# Altium footprint library диоды.PcbLib: 14 footprints
Each footprint in its own frame and in the unit in brackets; x right, y up, seen from the top. Pads: shape width x height; smd on the part's side, far side on the other; paste and mask are expansions set on the pad; w line width, h text height; cw(c..) or ccw(c..) is an arc to the next point about the centre after c.
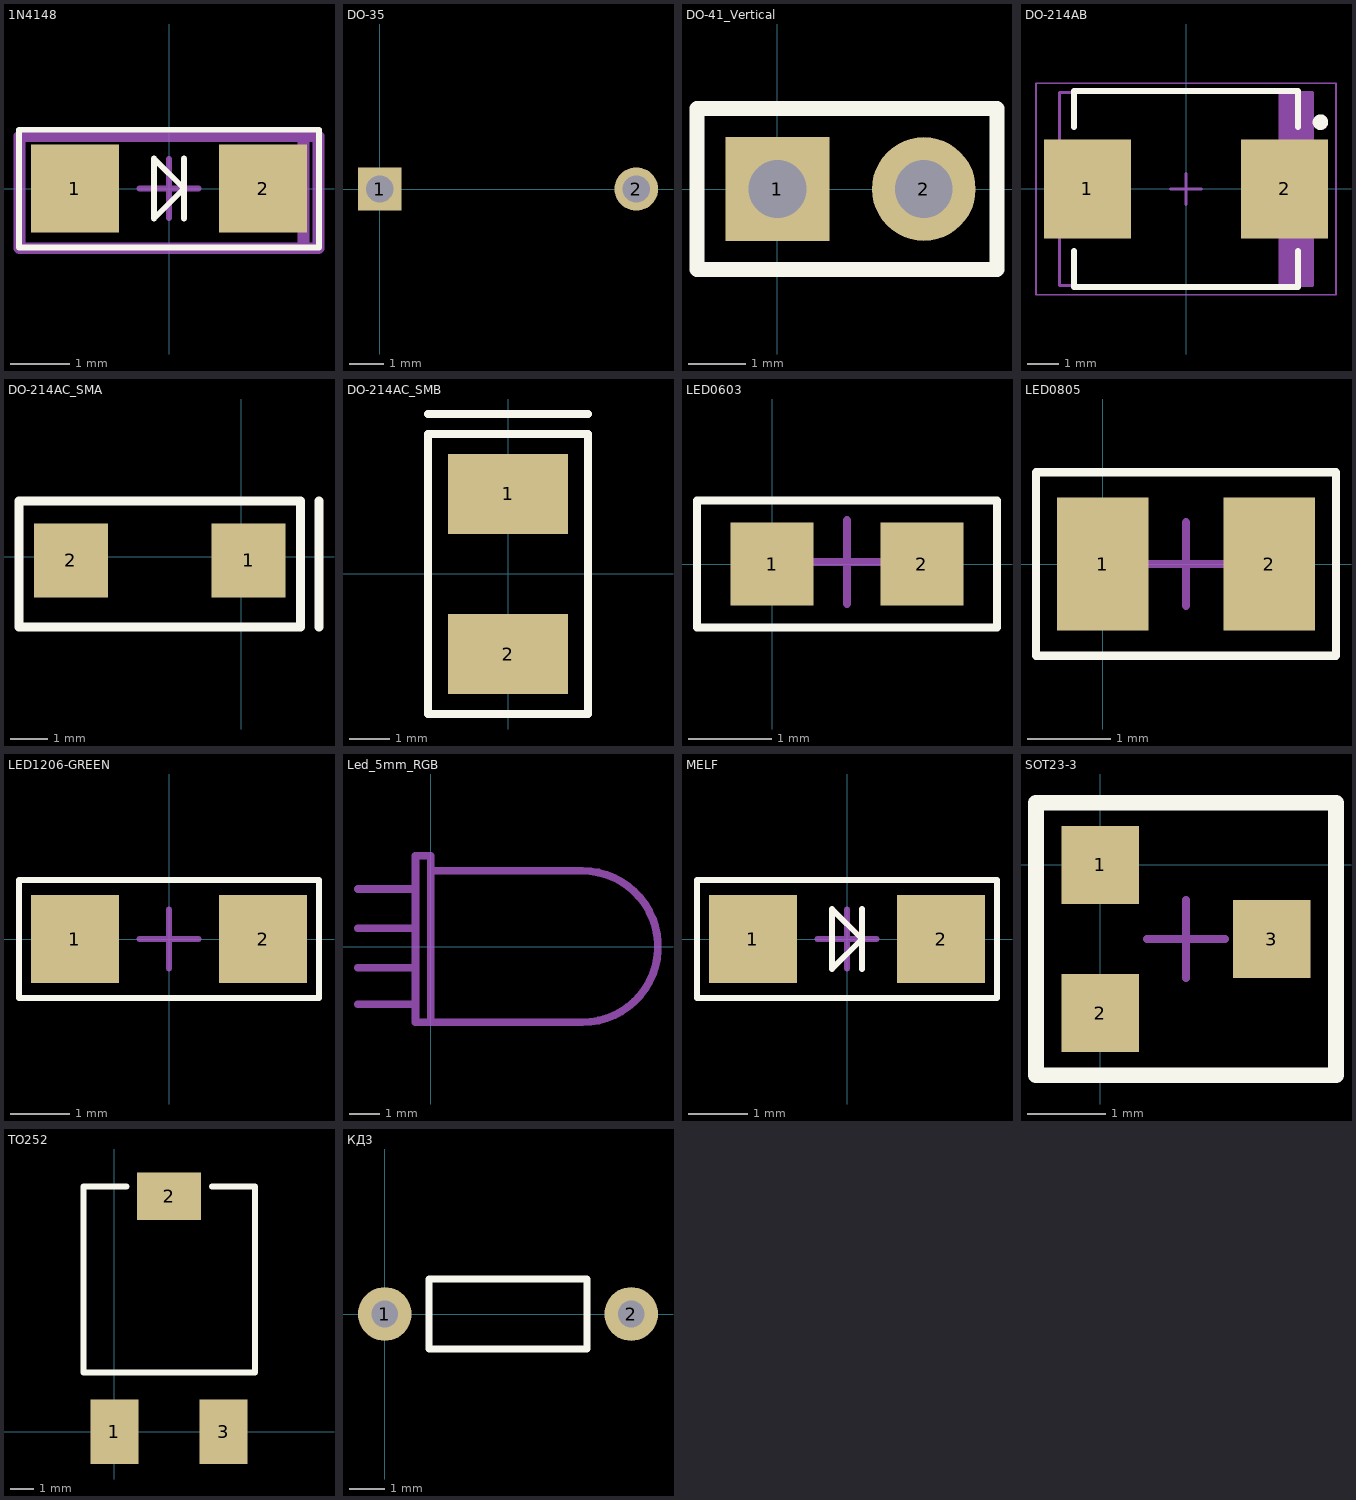
[diagram p0: the footprints below, top view; thin cyan lines are the x and y axes]

## 1N4148 [mm]
pads (2):
  rect 1.5x1.5 smd: 1(-1.6,0) 2(1.6,0)
Top Overlay:
  lines w0.1: 0.254,-0.508 0.254,0.508 ; -2.55,-1 2.55,-1 2.55,1 -2.55,1 -2.55,-1 ; -0.254,-0.508 -0.254,0.508 0.254,0 -0.254,-0.508
Top Assy:
  lines w0.2: 2.286,-1.016 2.286,0.889 ; -2.54,-1.016 -2.54,0.889 2.54,0.889 2.54,-1.016 -2.54,-1.016
  text ".Designator" at -2.14,0.284 h1.52
Mechanical 15:
  lines w0.1: -0.5,0 0.5,0 ; 0,-0.5 0,0.5
3D body "1n4148.step": height 1.6, standoff 0, extent -1.723,-0.838 1.977,0.762

## DO-35 [mm]
pads (2):
  rect 1.27x1.27 hole 0.8: 1(0,0)
  round 1.27 hole 0.8: 2(7.5,0)

## DO-41_Vertical [mm]
pads (2):
  rect 1.8x1.8 hole 1: 1(0,0)
  round 1.8 hole 1: 2(2.54,0)
Top Overlay:
  lines w0.254: -1.397,-1.397 3.81,-1.397 3.81,1.397 -1.397,1.397 -1.397,-1.397
3D body "User Library-Diod DO-41 Vertical.STEP": height 9.64, standoff -4.5, extent -1.365,-1.365 2.97,1.365

## DO-214AB [mm] "DO-214AB, SMC"
height 2.6
pads (2):
  rect 2.8x3.2 smd: 1(-3.175,0) 2(3.175,0)
Top Overlay:
  circle w0.25: c4.325,2.15 r0.125
  lines w0.2: -3.6,-2 -3.6,-3.15 3.6,-3.15 3.6,-2 ; -3.6,2 -3.6,3.15 3.6,3.15 3.6,2
Mechanical 13:
  rectangle: 2.972,-3.11 4.065,3.11
  lines w0.1: -4.065,-3.11 -4.065,3.11 4.065,3.11 4.065,-3.11 -4.065,-3.11
Mechanical 15:
  lines w0.05: -4.825,-3.4 -4.825,3.4 4.825,3.4 4.825,-3.4 -4.825,-3.4
  lines w0.1: -0.5,0 0.5,0 ; 0,-0.5 0,0.5
3D body "User Library-DO-214AB(SMC).STEP": height 2.62, standoff -0.02, extent -4.264,-3.15 3.864,3.15

## DO-214AC_SMA [mm]
pads (2):
  rect 2x2 smd: 1(0.2,-0.1) 2(-4.6,-0.1)
Top Overlay:
  lines w0.254: 2.1,-1.9 2.1,1.5 ; -6,-1.9 -6,1.5 -5.5,1.5 1.6,1.5 1.6,-1.9 -5.5,-1.9 -6,-1.9
3D body "User Library-DO-214AC(SMA).STEP": height 2.64, standoff 0.36, extent -4.943,-1.597 0.543,1.197

## DO-214AC_SMB [mm]
pads (2):
  rect 3x2 smd: 1(0,2) 2(0,-2)
Top Overlay:
  lines w0.2: -2,4 2,4 ; -2,-3.5 -2,3.5 2,3.5 2,-3.5 -2,-3.5
Top Assy:
  lines w0.2: -2,4 2,4 ; -2,-3.5 -2,3.5 2,3.5 2,-3.5 -2,-3.5
  text ".Designator" at -0.4,3 h1.52
3D body "DO-214AA SMB.step": height 1, standoff -1.3, extent -1.8,-2.7 1.8,2.7

## LED0603 [mm]
pads (2):
  rect 1x1 smd: 1(0,0) 2(1.8,0)
Top Overlay:
  lines w0.1: -0.9,-0.762 2.7,-0.762 2.7,0.762 -0.9,0.762 -0.9,-0.762
Mechanical 15:
  lines w0.1: 0.4,0.025 1.4,0.025 ; 0.9,-0.475 0.9,0.525
3D body "R0603.STEP": height 0.56, standoff 0, extent 0.05,-0.375 1.75,0.425

## LED0805 [mm]
pads (2):
  rect 1.1x1.6 smd: 1(0,0) 2(2,0)
Top Overlay:
  lines w0.1: -0.8,-1.1 -0.8,1.1 2.8,1.1 2.8,-1.1 -0.8,-1.1
Mechanical 15:
  lines w0.1: 0.5,0 1.5,0 ; 1,-0.5 1,0.5
3D body "R0805.STEP": height 0.76, standoff 0, extent -0.15,-0.675 2.15,0.675

## LED1206-GREEN [mm]
pads (2):
  rect 1.5x1.5 smd: 1(-1.6,0) 2(1.6,0)
Top Overlay:
  lines w0.1: -2.55,-1 2.55,-1 2.55,1 -2.55,1 -2.55,-1
Mechanical 15:
  lines w0.1: -0.5,0 0.5,0 ; 0,-0.5 0,0.5
3D body "LED 1206.STEP": height 1.1, standoff 0, extent -1.6,-0.8 1.6,0.8

## Led_5mm_RGB [mm]
Mechanical 15:
  lines w0.254: -2.4,-1.9 -0.5,-1.9 ; -2.4,-0.7 -0.5,-0.7 ; -2.4,0.6 -0.5,0.6 ; -2.4,1.9 -0.5,1.9 ; 0,2.5 5,2.5 cw(c5,0) 5,-2.5 0,-2.5 ; 0,-2.5 -0.5,-2.5 -0.5,3 0,3 0,-2.5

## MELF [mm]
pads (2):
  rect 1.5x1.5 smd: 1(-1.6,0) 2(1.6,0)
Top Overlay:
  lines w0.1: 0.254,-0.508 0.254,0.508 ; -2.55,-1 -2.55,1 2.55,1 2.55,-1 -2.55,-1 ; -0.254,-0.508 0.254,0 -0.254,0.508 -0.254,-0.508
Mechanical 15:
  lines w0.1: -0.5,0 0.5,0 ; 0,-0.5 0,0.5
3D body "MELF.step": height 1.5, standoff 0, extent -1.75,-0.75 1.75,0.75

## SOT23-3 [mm]
pads (3):
  rect 1x1 smd: 1(0,0) 2(0,-1.9) 3(2.2,-0.95)
Top Overlay:
  lines w0.2: -0.825,-2.7 -0.825,0.8 3.025,0.8 3.025,-2.7 -0.825,-2.7
Mechanical 15:
  lines w0.1: 0.6,-0.95 1.6,-0.95 ; 1.1,-1.45 1.1,-0.45
3D body "SOT23-3.STEP": height 0.55, standoff -0.55, extent -0.15,-2.45 2.35,0.55

## TO252 [mm]
pads (3):
  rect 2x2.7 smd: 1(0,0) 3(4.58,0)
  rect 2.7x2 smd: 2(2.29,9.9)
Top Overlay:
  lines w0.254: 0.5,10.3 -1.3,10.3 -1.3,2.5 5.9,2.5 5.9,10.3 ; 4.1,10.3 5.9,10.3 ; 5.9,10.3 5.9,10.3
3D body "TO252.STEP": height 2.37, standoff -0.03, extent -1.081,-0.383 5.653,9.717

## КД3 [mil]
pads (2):
  round 60 hole 30: 1(0,0) 2(275.59,0)
Top Overlay:
  lines w7.87: 49.21,-39.37 226.38,-39.37 226.38,39.37 49.21,39.37 49.21,-39.37
3D body "КД3.STEP": height 82.68, standoff -31.5, extent -9.84,-35.43 285.43,35.43